# EAGLE library part MAX7500MSA+T (library MAX7500MSA+T)
MAXIM INTEGRATED PRODUCTS - MAX7500MSA+T - TEMPERATURE SENSOR, 2DEG C, NSOIC-8 Source: Datasheet <https://componentsearchengine.com/Datasheets/2/MAX7500MSA T.pdf>
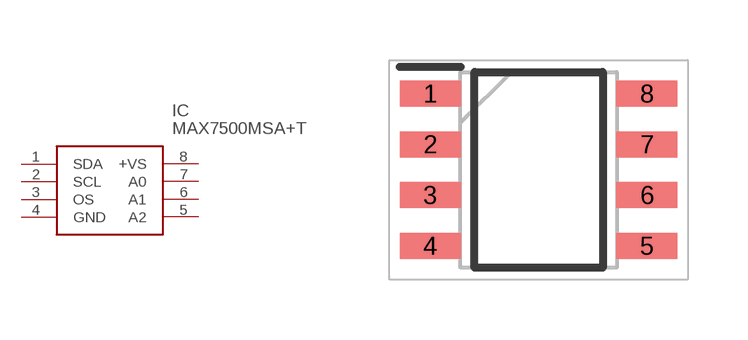
[diagram p0: symbol with the pads of SOIC127P600X175-8N; footprint SOIC127P600X175-8N]

Designator prefix IC

## MAX7500MSA+T (Description: MAXIM INTEGRATED PRODUCTS - MAX7500MSA+T - TEMPERATURE SENSOR, 2DEG C, NSOIC-8; Height: 1.75mm; Manufacturer_Name: Analog Devices; Manufacturer_Part_Number: MAX7500MSA+T; Mouser_Part_Number: 700-MAX7500MSAT; Mouser_Price-Stock: https://www.mouser.co.uk/ProductDetail/Maxim-Integrated/MAX7500MSA%2bT?qs=1THa7WoU59F7t00CHZBrcA%3D%3D)  [SOIC127P600X175-8N]
1  SDA
2  SCL
3  OS
4  GND
5  A2
6  A1
7  A0
8  +VS

## Footprint SOIC127P600X175-8N (pad centres in mm)
8 SO
smd 1.525 x 0.65: 1 -2.712,1.905; 2 -2.712,0.635; 3 -2.712,-0.635; 4 -2.712,-1.905; 5 2.712,-1.905; 6 2.712,-0.635; 7 2.712,0.635; 8 2.712,1.905